# Altium schematic symbol library 2002411114.SchLib: 1 symbol
Pins are listed as number, name and electrical type; pins without a type are passive.

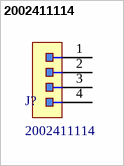
[diagram p0: symbol 2002411114]

## 2002411114
designator J?
MOLEX CONN HEADER VERT 4POS 5.7MM
pins: 1, 2, 3, 4